# Altium integrated library Analog_Devices_Power_Management_Linear_Regulators.IntLib: 441 symbols (part 17 of 23)
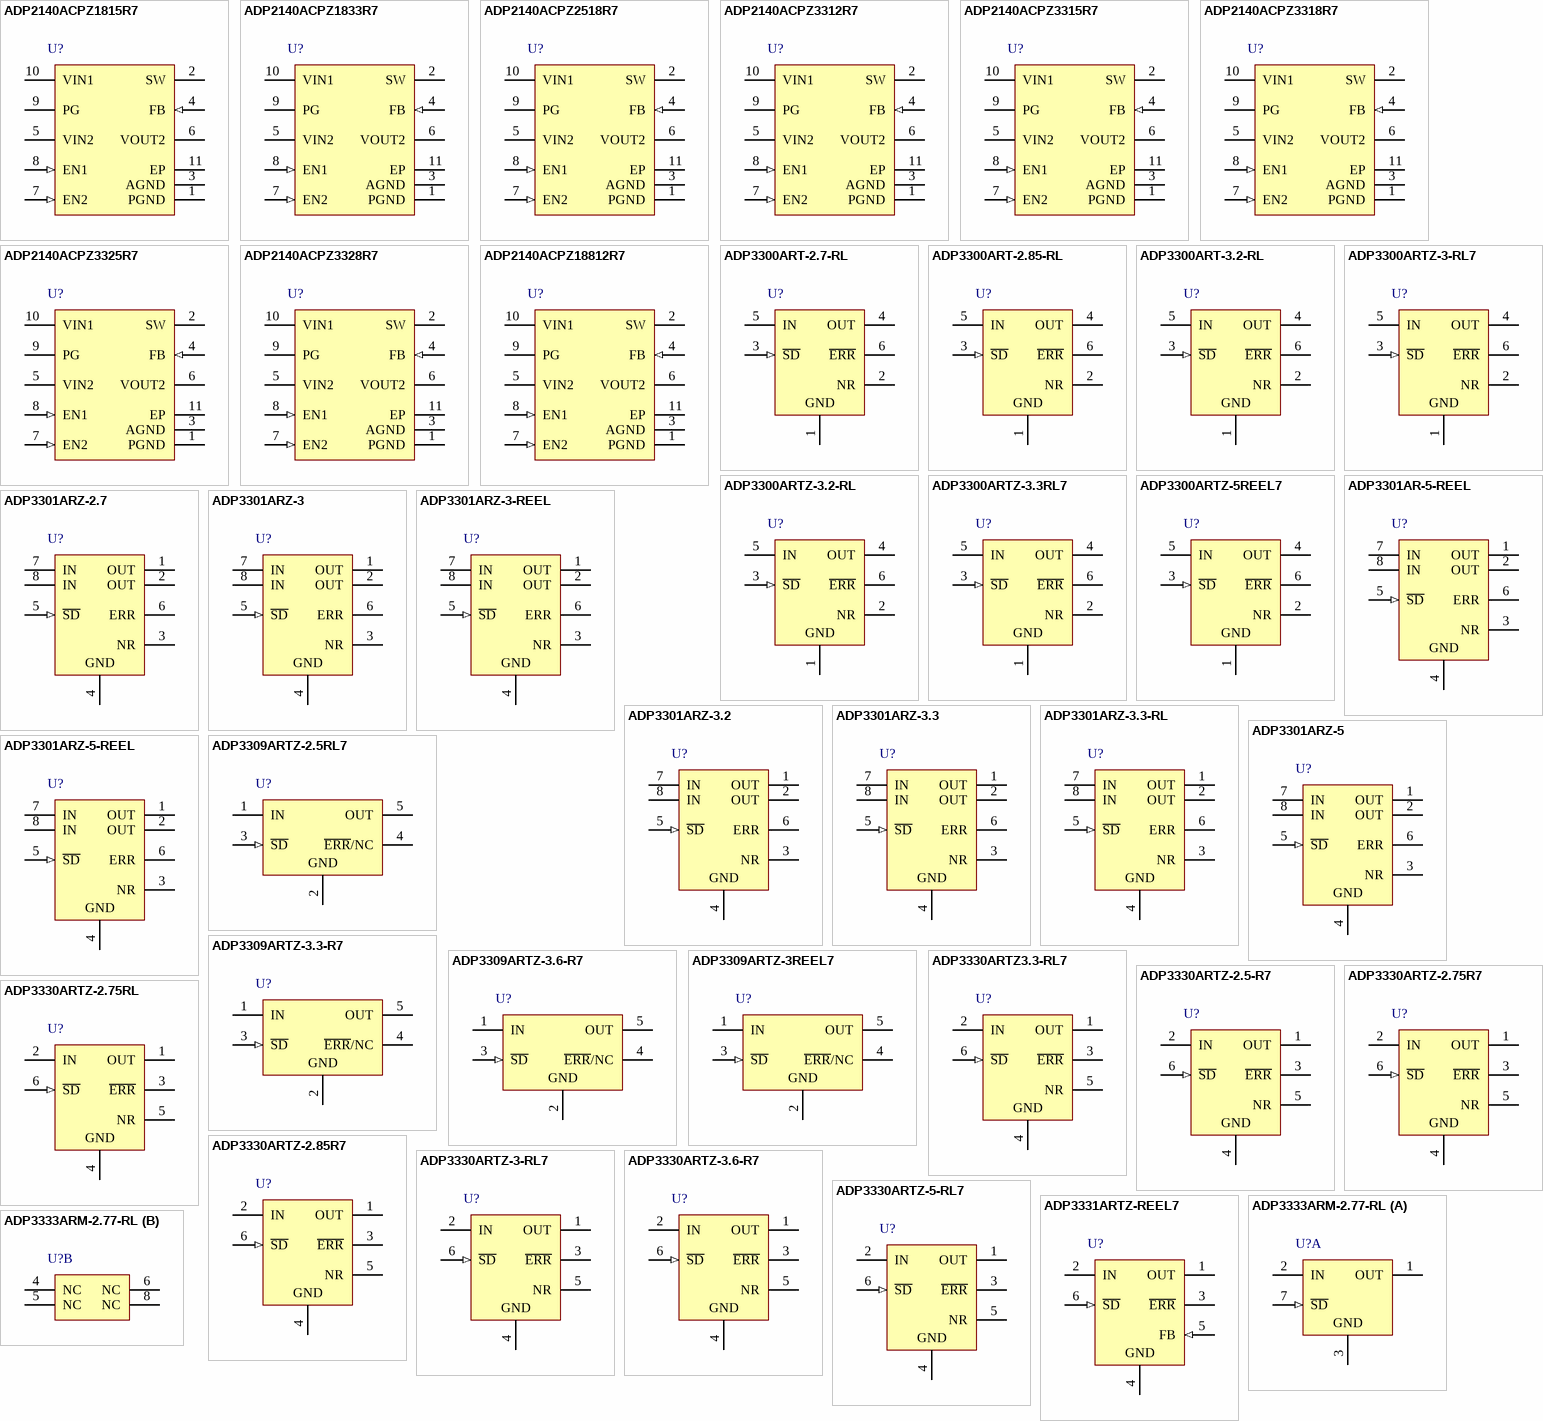
[diagram p27: symbols ADP2140ACPZ1815R7 to ADP3333ARM-2.77-RL]

## ADP2140ACPZ3312R7
designator U?
3 MHz, 600 mA, Low Quiescent Current Buck with 300 mA LDO Regulator, 2.3 to 5.5 V Vin, 3.3; 1.2 V Vout, Industrial, 10-pin SON (CP-10-9), Reel; Manufacturer: Analog Devices; PartNumber: ADP2140ACPZ3312R7; Iout max: 300mA; Supply Current IGND @ Small Load: 65uA; Vin (max) (V): 5.5; Vin (min) (V): 1.65; DatasheetVersion: Rev. A; PackageVersion: 02-27-2012-B; PackageReference: CP-10-9; PackageDescription: 10-Pin Lead Frame Chip Scale Package, Body 3 X 3 mm, Pitch 0.5 mm; Supplier 1: Digi-Key; Supplier Part Number 1: ADP2140ACPZ3312R7TR-ND; Supplier 2: Digi-Key; Supplier Part Number 2: ADP2140ACPZ3312R7CT-ND; Supplier 3: Digi-Key; Supplier Part Number 3: ADP2140ACPZ3312R7DKR-ND; Supplier 4: Farnell; Supplier Part Number 4: 1843658; Supplier 5: Newark; Supplier Part Number 5: 12T2992; Supplier 6: Mouser; Supplier Part Number 6: 584-AP2140ACPZ3312R7; Packing: Reel; Preset Vout Values (V): 3.3; 1.2; Mounting Technology: Surface Mount; ComponentLink1Description: Manufacturer URL; ComponentLink1URL: http://www.analog.com/en/index.html; ComponentLink2Description: Datasheet; ComponentLink2URL: http://www.analog.com/static/imported-files/data_sheets/ADP2140.pdf; ComponentLink3Description: Package Specification; ComponentLink3URL: http://www.analog.com/static/imported-files/packages/CP_10_9.pdf; ComponentLink4Description: URL Link1; ComponentLink4URL: Product URL:http://www.analog.com/en/ADP2140/productSearch.html
footprint ADI-CP-10-9_V (SON, 10-Leads, Body 3x3mm, Pitch 0.5mm, Thermal Pad 2.48x1.74mm)
pins: 1 PGND (power) "Power Ground.", 2 SW (power) "Connection from Power MOSFETs to Inductor.", 3 AGND (power) "Analog Ground.", 4 FB (in) "Feedback from Buck Output.", 5 VIN2 (power) "LDO Input Voltage.", 6 VOUT2 (power) "LDO Output Voltage.", 7 EN2 (in) "Logic 1 to Enable LDO or No Connect for Autosequencing.", 8 EN1 (in) "Logic 1 to Enable Buck or Initiate Sequencing. This is a dual function pin and the state of EN2 determines which function is operational.", 9 PG (oc) "Power Good. Open-drain output. PG is held low until both output voltages (which includes the external inductor and capacitor sensed by the FB pin) rise above 92% of nominal value. PG is held high until both outputs fall (See Datasheet)", 10 VIN1 (power) "Analog Power Input.", 11 EP (power) "Exposed Pad. The exposed pad on the bottom of the LFCSP package enhances thermal performance and is electrically connected to ground inside the package. It is recommended that the exposed pad be connected to the ground plane (See Datasheet)"

## ADP2140ACPZ3315R7
designator U?
3 MHz, 600 mA, Low Quiescent Current Buck with 300 mA LDO Regulator, 2.3 to 5.5 V Vin, 3.3; 1.5 V Vout, Industrial, 10-pin SON (CP-10-9), Reel; Manufacturer: Analog Devices; PartNumber: ADP2140ACPZ3315R7; Iout max: 300mA; Supply Current IGND @ Small Load: 65uA; Vin (max) (V): 5.5; Vin (min) (V): 1.65; DatasheetVersion: Rev. A; PackageVersion: 02-27-2012-B; PackageReference: CP-10-9; PackageDescription: 10-Pin Lead Frame Chip Scale Package, Body 3 X 3 mm, Pitch 0.5 mm; Supplier 1: Digi-Key; Supplier Part Number 1: ADP2140ACPZ3315R7TR-ND; Supplier 2: Digi-Key; Supplier Part Number 2: ADP2140ACPZ3315R7CT-ND; Supplier 3: Digi-Key; Supplier Part Number 3: ADP2140ACPZ3315R7DKR-ND; Supplier 4: Farnell; Supplier Part Number 4: 1843659; Supplier 5: Newark; Supplier Part Number 5: 12T2993; Supplier 6: Mouser; Supplier Part Number 6: 584-AP2140ACPZ3315R7; Packing: Reel; Preset Vout Values (V): 3.3; 1.5; Mounting Technology: Surface Mount; ComponentLink1Description: Manufacturer URL; ComponentLink1URL: http://www.analog.com/en/index.html; ComponentLink2Description: Datasheet; ComponentLink2URL: http://www.analog.com/static/imported-files/data_sheets/ADP2140.pdf; ComponentLink3Description: Package Specification; ComponentLink3URL: http://www.analog.com/static/imported-files/packages/CP_10_9.pdf; ComponentLink4Description: URL Link1; ComponentLink4URL: Product URL:http://www.analog.com/en/ADP2140/productSearch.html
footprint ADI-CP-10-9_V (SON, 10-Leads, Body 3x3mm, Pitch 0.5mm, Thermal Pad 2.48x1.74mm)
pins: 1 PGND (power) "Power Ground.", 2 SW (power) "Connection from Power MOSFETs to Inductor.", 3 AGND (power) "Analog Ground.", 4 FB (in) "Feedback from Buck Output.", 5 VIN2 (power) "LDO Input Voltage.", 6 VOUT2 (power) "LDO Output Voltage.", 7 EN2 (in) "Logic 1 to Enable LDO or No Connect for Autosequencing.", 8 EN1 (in) "Logic 1 to Enable Buck or Initiate Sequencing. This is a dual function pin and the state of EN2 determines which function is operational.", 9 PG (oc) "Power Good. Open-drain output. PG is held low until both output voltages (which includes the external inductor and capacitor sensed by the FB pin) rise above 92% of nominal value. PG is held high until both outputs fall (See Datasheet)", 10 VIN1 (power) "Analog Power Input.", 11 EP (power) "Exposed Pad. The exposed pad on the bottom of the LFCSP package enhances thermal performance and is electrically connected to ground inside the package. It is recommended that the exposed pad be connected to the ground plane (See Datasheet)"

## ADP2140ACPZ3318R7
designator U?
3 MHz, 600 mA, Low Quiescent Current Buck with 300 mA LDO Regulator, 2.3 to 5.5 V Vin, 3.3; 1.8 V Vout, Industrial, 10-pin SON (CP-10-9), Reel; Manufacturer: Analog Devices; PartNumber: ADP2140ACPZ3318R7; Iout max: 300mA; Supply Current IGND @ Small Load: 65uA; Vin (max) (V): 5.5; Vin (min) (V): 1.65; DatasheetVersion: Rev. A; PackageVersion: 02-27-2012-B; PackageReference: CP-10-9; PackageDescription: 10-Pin Lead Frame Chip Scale Package, Body 3 X 3 mm, Pitch 0.5 mm; Supplier 1: Digi-Key; Supplier Part Number 1: ADP2140ACPZ3318R7TR-ND; Supplier 2: Digi-Key; Supplier Part Number 2: ADP2140ACPZ3318R7CT-ND; Supplier 3: Digi-Key; Supplier Part Number 3: ADP2140ACPZ3318R7DKR-ND; Supplier 4: Mouser; Supplier Part Number 4: 584-AP2140ACPZ3318R7; Packing: Reel; Preset Vout Values (V): 3.3; 1.8; Mounting Technology: Surface Mount; ComponentLink1Description: Manufacturer URL; ComponentLink1URL: http://www.analog.com/en/index.html; ComponentLink2Description: Datasheet; ComponentLink2URL: http://www.analog.com/static/imported-files/data_sheets/ADP2140.pdf; ComponentLink3Description: Package Specification; ComponentLink3URL: http://www.analog.com/static/imported-files/packages/CP_10_9.pdf; ComponentLink4Description: URL Link1; ComponentLink4URL: Product URL:http://www.analog.com/en/ADP2140/productSearch.html
footprint ADI-CP-10-9_V (SON, 10-Leads, Body 3x3mm, Pitch 0.5mm, Thermal Pad 2.48x1.74mm)
pins: 1 PGND (power) "Power Ground.", 2 SW (power) "Connection from Power MOSFETs to Inductor.", 3 AGND (power) "Analog Ground.", 4 FB (in) "Feedback from Buck Output.", 5 VIN2 (power) "LDO Input Voltage.", 6 VOUT2 (power) "LDO Output Voltage.", 7 EN2 (in) "Logic 1 to Enable LDO or No Connect for Autosequencing.", 8 EN1 (in) "Logic 1 to Enable Buck or Initiate Sequencing. This is a dual function pin and the state of EN2 determines which function is operational.", 9 PG (oc) "Power Good. Open-drain output. PG is held low until both output voltages (which includes the external inductor and capacitor sensed by the FB pin) rise above 92% of nominal value. PG is held high until both outputs fall (See Datasheet)", 10 VIN1 (power) "Analog Power Input.", 11 EP (power) "Exposed Pad. The exposed pad on the bottom of the LFCSP package enhances thermal performance and is electrically connected to ground inside the package. It is recommended that the exposed pad be connected to the ground plane (See Datasheet)"

## ADP2140ACPZ3325R7
designator U?
3 MHz, 600 mA, Low Quiescent Current Buck with 300 mA LDO Regulator, 2.3 to 5.5 V Vin, 3.3; 2.5 V Vout, Industrial, 10-pin SON (CP-10-9), Reel; Manufacturer: Analog Devices; PartNumber: ADP2140ACPZ3325R7; Iout max: 300mA; Supply Current IGND @ Small Load: 65uA; Vin (max) (V): 5.5; Vin (min) (V): 1.65; DatasheetVersion: Rev. A; PackageVersion: 02-27-2012-B; PackageReference: CP-10-9; PackageDescription: 10-Pin Lead Frame Chip Scale Package, Body 3 X 3 mm, Pitch 0.5 mm; Supplier 1: Digi-Key; Supplier Part Number 1: ADP2140ACPZ3325R7TR-ND; Supplier 2: Digi-Key; Supplier Part Number 2: ADP2140ACPZ3325R7CT-ND; Supplier 3: Digi-Key; Supplier Part Number 3: ADP2140ACPZ3325R7DKR-ND; Supplier 4: Mouser; Supplier Part Number 4: 584-AP2140ACPZ3325R7; Packing: Reel; Preset Vout Values (V): 3.3; 2.5; Mounting Technology: Surface Mount; ComponentLink1Description: Manufacturer URL; ComponentLink1URL: http://www.analog.com/en/index.html; ComponentLink2Description: Datasheet; ComponentLink2URL: http://www.analog.com/static/imported-files/data_sheets/ADP2140.pdf; ComponentLink3Description: Package Specification; ComponentLink3URL: http://www.analog.com/static/imported-files/packages/CP_10_9.pdf; ComponentLink4Description: URL Link1; ComponentLink4URL: Product URL:http://www.analog.com/en/ADP2140/productSearch.html
footprint ADI-CP-10-9_V (SON, 10-Leads, Body 3x3mm, Pitch 0.5mm, Thermal Pad 2.48x1.74mm)
pins: 1 PGND (power) "Power Ground.", 2 SW (power) "Connection from Power MOSFETs to Inductor.", 3 AGND (power) "Analog Ground.", 4 FB (in) "Feedback from Buck Output.", 5 VIN2 (power) "LDO Input Voltage.", 6 VOUT2 (power) "LDO Output Voltage.", 7 EN2 (in) "Logic 1 to Enable LDO or No Connect for Autosequencing.", 8 EN1 (in) "Logic 1 to Enable Buck or Initiate Sequencing. This is a dual function pin and the state of EN2 determines which function is operational.", 9 PG (oc) "Power Good. Open-drain output. PG is held low until both output voltages (which includes the external inductor and capacitor sensed by the FB pin) rise above 92% of nominal value. PG is held high until both outputs fall (See Datasheet)", 10 VIN1 (power) "Analog Power Input.", 11 EP (power) "Exposed Pad. The exposed pad on the bottom of the LFCSP package enhances thermal performance and is electrically connected to ground inside the package. It is recommended that the exposed pad be connected to the ground plane (See Datasheet)"

## ADP2140ACPZ3328R7
designator U?
3 MHz, 600 mA, Low Quiescent Current Buck with 300 mA LDO Regulator, 2.3 to 5.5 V Vin, 3.3; 2.8 V Vout, Industrial, 10-pin SON (CP-10-9), Reel; Manufacturer: Analog Devices; PartNumber: ADP2140ACPZ3328R7; Iout max: 300mA; Supply Current IGND @ Small Load: 65uA; Vin (max) (V): 5.5; Vin (min) (V): 1.65; DatasheetVersion: Rev. A; PackageVersion: 02-27-2012-B; PackageReference: CP-10-9; PackageDescription: 10-Pin Lead Frame Chip Scale Package, Body 3 X 3 mm, Pitch 0.5 mm; Supplier 1: Digi-Key; Supplier Part Number 1: ADP2140ACPZ3328R7TR-ND; Supplier 2: Digi-Key; Supplier Part Number 2: ADP2140ACPZ3328R7CT-ND; Supplier 3: Digi-Key; Supplier Part Number 3: ADP2140ACPZ3328R7DKR-ND; Supplier 4: Mouser; Supplier Part Number 4: 584-AP2140ACPZ3328R7; Packing: Reel; Preset Vout Values (V): 3.3; 2.8; Mounting Technology: Surface Mount; ComponentLink1Description: Manufacturer URL; ComponentLink1URL: http://www.analog.com/en/index.html; ComponentLink2Description: Datasheet; ComponentLink2URL: http://www.analog.com/static/imported-files/data_sheets/ADP2140.pdf; ComponentLink3Description: Package Specification; ComponentLink3URL: http://www.analog.com/static/imported-files/packages/CP_10_9.pdf; ComponentLink4Description: URL Link1; ComponentLink4URL: Product URL:http://www.analog.com/en/ADP2140/productSearch.html
footprint ADI-CP-10-9_V (SON, 10-Leads, Body 3x3mm, Pitch 0.5mm, Thermal Pad 2.48x1.74mm)
pins: 1 PGND (power) "Power Ground.", 2 SW (power) "Connection from Power MOSFETs to Inductor.", 3 AGND (power) "Analog Ground.", 4 FB (in) "Feedback from Buck Output.", 5 VIN2 (power) "LDO Input Voltage.", 6 VOUT2 (power) "LDO Output Voltage.", 7 EN2 (in) "Logic 1 to Enable LDO or No Connect for Autosequencing.", 8 EN1 (in) "Logic 1 to Enable Buck or Initiate Sequencing. This is a dual function pin and the state of EN2 determines which function is operational.", 9 PG (oc) "Power Good. Open-drain output. PG is held low until both output voltages (which includes the external inductor and capacitor sensed by the FB pin) rise above 92% of nominal value. PG is held high until both outputs fall (See Datasheet)", 10 VIN1 (power) "Analog Power Input.", 11 EP (power) "Exposed Pad. The exposed pad on the bottom of the LFCSP package enhances thermal performance and is electrically connected to ground inside the package. It is recommended that the exposed pad be connected to the ground plane (See Datasheet)"

## ADP2140ACPZ18812R7
designator U?
3 MHz, 600 mA, Low Quiescent Current Buck with 300 mA LDO Regulator, 2.3 to 5.5 V Vin, 1.875; 1.2 V Vout, Industrial, 10-pin SON (CP-10-9), Reel; Manufacturer: Analog Devices; PartNumber: ADP2140ACPZ18812R7; Iout max: 300mA; Supply Current IGND @ Small Load: 65uA; Vin (max) (V): 5.5; Vin (min) (V): 1.65; DatasheetVersion: Rev. A; PackageVersion: 02-27-2012-B; PackageReference: CP-10-9; PackageDescription: 10-Pin Lead Frame Chip Scale Package, Body 3 X 3 mm, Pitch 0.5 mm; Supplier 1: Digi-Key; Supplier Part Number 1: ADP2140ACPZ18812R7TR-ND; Supplier 2: Digi-Key; Supplier Part Number 2: ADP2140ACPZ18812R7CT-ND; Supplier 3: Digi-Key; Supplier Part Number 3: ADP2140ACPZ18812R7DKR-ND; Supplier 4: Mouser; Supplier Part Number 4: 584-P2140ACPZ18812R7; Packing: Reel; Preset Vout Values (V): 1.875; 1.2; Mounting Technology: Surface Mount; ComponentLink1Description: Manufacturer URL; ComponentLink1URL: http://www.analog.com/en/index.html; ComponentLink2Description: Datasheet; ComponentLink2URL: http://www.analog.com/static/imported-files/data_sheets/ADP2140.pdf; ComponentLink3Description: Package Specification; ComponentLink3URL: http://www.analog.com/static/imported-files/packages/CP_10_9.pdf; ComponentLink4Description: URL Link1; ComponentLink4URL: Product URL:http://www.analog.com/en/ADP2140/productSearch.html
footprint ADI-CP-10-9_V (SON, 10-Leads, Body 3x3mm, Pitch 0.5mm, Thermal Pad 2.48x1.74mm)
pins: 1 PGND (power) "Power Ground.", 2 SW (power) "Connection from Power MOSFETs to Inductor.", 3 AGND (power) "Analog Ground.", 4 FB (in) "Feedback from Buck Output.", 5 VIN2 (power) "LDO Input Voltage.", 6 VOUT2 (power) "LDO Output Voltage.", 7 EN2 (in) "Logic 1 to Enable LDO or No Connect for Autosequencing.", 8 EN1 (in) "Logic 1 to Enable Buck or Initiate Sequencing. This is a dual function pin and the state of EN2 determines which function is operational.", 9 PG (oc) "Power Good. Open-drain output. PG is held low until both output voltages (which includes the external inductor and capacitor sensed by the FB pin) rise above 92% of nominal value. PG is held high until both outputs fall (See Datasheet)", 10 VIN1 (power) "Analog Power Input.", 11 EP (power) "Exposed Pad. The exposed pad on the bottom of the LFCSP package enhances thermal performance and is electrically connected to ground inside the package. It is recommended that the exposed pad be connected to the ground plane (See Datasheet)"

## ADP3300ART-2.7-RL
designator U?
High Accuracy anyCAP(R) 50 mA Low Dropout Linear Regulator, 3 to 12 V Vin, 2.7 V Vout, Industrial, 6-pin SOT23 (RT-6), Reel; Manufacturer: Analog Devices; PartNumber: ADP3300ART-2.7-RL; Iout max: 50mA; Preset Vout Values (V): 2.7; Supply Current IGND @ Small Load: 190uA; Vin (max) (V): 12; Vin (min) (V): 3; DatasheetVersion: Rev. B; PackageVersion: REV. A, 11/2006; PackageReference: RT-6; PackageDescription: 6-Pin Plastic Surface Mount SOT-23 Package, Body 2.9 x 1.65 mm, Pitch 0.95 mm; Supplier 1: Digi-Key; Supplier Part Number 1: ADP3300ART-2.7-RLTR-ND; Supplier 2: Digi-Key; Supplier Part Number 2: ADP3300ART-2.7-RLCT-ND; Supplier 3: Digi-Key; Supplier Part Number 3: ADP3300ART-2.7-RLDKR-ND; Supplier 4: Mouser; Supplier Part Number 4: 584-ADP3300ART-2.7-R; Packing: Reel; Mounting Technology: Surface Mount; ComponentLink1Description: Manufacturer URL; ComponentLink1URL: http://www.analog.com/en/index.html; ComponentLink2Description: Datasheet; ComponentLink2URL: http://www.analog.com/static/imported-files/data_sheets/ADP3300.pdf; ComponentLink3Description: Package Specification; ComponentLink3URL: http://www.analog.com/static/imported-files/data_sheets/ADG465.pdf; ComponentLink4Description: URL Link1; ComponentLink4URL: Product URL:http://www.analog.com/en/ADP3300/productSearch.html
footprint ADI-RT-6_N (SOT23, 6-Leads, Body 2.9x1.65mm, Pitch 0.95mm, IPC Medium Density)
footprint ADI-RT-6_L (SOT23, 6-Leads, Body 2.9x1.65mm, Pitch 0.95mm, IPC High Density)
footprint ADI-RT-6_M (SOT23, 6-Leads, Body 2.9x1.65mm, Pitch 0.95mm, IPC Low Density)
pins: 1 GND (power) "Ground Pin", 2 NR "Noise Reduction Pin. Used for further reduction of the output noise (see text for details). No connection if not used.", 3 ~{SD} (in) "Active Low Shutdown Pin. Connect to ground to disable the regulator output. When shutdown is not used, this pin should be connected to the input pin.", 4 OUT (power) "Output of the Regulator, fixed 2.7, 3.0, 3.2, 3.3 or 5 volts output voltage. Bypass to ground with a 0.47 uF or larger capacitor.", 5 IN (power) "Regulator Input", 6 ~{ERR} (oc) "Open Collector Output which goes low to indicate that the output is about to go out of regulation."

## ADP3300ART-2.85-RL
designator U?
High Accuracy anyCAP(R) 50 mA Low Dropout Linear Regulator, 3 to 12 V Vin, 2.85 V Vout, Industrial, 6-pin SOT23 (RT-6), Reel; Manufacturer: Analog Devices; PartNumber: ADP3300ART-2.85-RL; Iout max: 50mA; Preset Vout Values (V): 2.85; Supply Current IGND @ Small Load: 190uA; Vin (max) (V): 12; Vin (min) (V): 3; DatasheetVersion: Rev. B; PackageVersion: REV. A, 11/2006; PackageReference: RT-6; PackageDescription: 6-Pin Plastic Surface Mount SOT-23 Package, Body 2.9 x 1.65 mm, Pitch 0.95 mm; Supplier 1: Mouser; Supplier Part Number 1: N/A; Packing: Reel; Mounting Technology: Surface Mount; ComponentLink1Description: Manufacturer URL; ComponentLink1URL: http://www.analog.com/en/index.html; ComponentLink2Description: Datasheet; ComponentLink2URL: http://www.analog.com/static/imported-files/data_sheets/ADP3300.pdf; ComponentLink3Description: Package Specification; ComponentLink3URL: http://www.analog.com/static/imported-files/data_sheets/ADG465.pdf; ComponentLink4Description: URL Link1; ComponentLink4URL: Product URL:http://www.analog.com/en/ADP3300/productSearch.html
footprint ADI-RT-6_N (SOT23, 6-Leads, Body 2.9x1.65mm, Pitch 0.95mm, IPC Medium Density)
footprint ADI-RT-6_L (SOT23, 6-Leads, Body 2.9x1.65mm, Pitch 0.95mm, IPC High Density)
footprint ADI-RT-6_M (SOT23, 6-Leads, Body 2.9x1.65mm, Pitch 0.95mm, IPC Low Density)
pins: 1 GND (power) "Ground Pin", 2 NR "Noise Reduction Pin. Used for further reduction of the output noise (see text for details). No connection if not used.", 3 ~{SD} (in) "Active Low Shutdown Pin. Connect to ground to disable the regulator output. When shutdown is not used, this pin should be connected to the input pin.", 4 OUT (power) "Output of the Regulator, fixed 2.7, 3.0, 3.2, 3.3 or 5 volts output voltage. Bypass to ground with a 0.47 uF or larger capacitor.", 5 IN (power) "Regulator Input", 6 ~{ERR} (oc) "Open Collector Output which goes low to indicate that the output is about to go out of regulation."

## ADP3300ART-3.2-RL
designator U?
High Accuracy anyCAP(R) 50 mA Low Dropout Linear Regulator, 3 to 12 V Vin, 3.2 V Vout, Industrial, 6-pin SOT23 (RT-6), Reel; Manufacturer: Analog Devices; PartNumber: ADP3300ART-3.2-RL; Iout max: 50mA; Preset Vout Values (V): 3.2; Supply Current IGND @ Small Load: 190uA; Vin (max) (V): 12; Vin (min) (V): 3; DatasheetVersion: Rev. B; PackageVersion: REV. A, 11/2006; PackageReference: RT-6; PackageDescription: 6-Pin Plastic Surface Mount SOT-23 Package, Body 2.9 x 1.65 mm, Pitch 0.95 mm; Supplier 1: Digi-Key; Supplier Part Number 1: ADP3300ART-3.2-RLTR-ND; Supplier 2: Digi-Key; Supplier Part Number 2: ADP3300ART-3.2-RLCT-ND; Supplier 3: Digi-Key; Supplier Part Number 3: ADP3300ART-3.2-RLDKR-ND; Supplier 4: Mouser; Supplier Part Number 4: 584-ADP3300ART-3.2-R; Packing: Reel; Mounting Technology: Surface Mount; ComponentLink1Description: Manufacturer URL; ComponentLink1URL: http://www.analog.com/en/index.html; ComponentLink2Description: Datasheet; ComponentLink2URL: http://www.analog.com/static/imported-files/data_sheets/ADP3300.pdf; ComponentLink3Description: Package Specification; ComponentLink3URL: http://www.analog.com/static/imported-files/data_sheets/ADG465.pdf; ComponentLink4Description: URL Link1; ComponentLink4URL: Product URL:http://www.analog.com/en/ADP3300/productSearch.html
footprint ADI-RT-6_N (SOT23, 6-Leads, Body 2.9x1.65mm, Pitch 0.95mm, IPC Medium Density)
footprint ADI-RT-6_L (SOT23, 6-Leads, Body 2.9x1.65mm, Pitch 0.95mm, IPC High Density)
footprint ADI-RT-6_M (SOT23, 6-Leads, Body 2.9x1.65mm, Pitch 0.95mm, IPC Low Density)
pins: 1 GND (power) "Ground Pin", 2 NR "Noise Reduction Pin. Used for further reduction of the output noise (see text for details). No connection if not used.", 3 ~{SD} (in) "Active Low Shutdown Pin. Connect to ground to disable the regulator output. When shutdown is not used, this pin should be connected to the input pin.", 4 OUT (power) "Output of the Regulator, fixed 2.7, 3.0, 3.2, 3.3 or 5 volts output voltage. Bypass to ground with a 0.47 uF or larger capacitor.", 5 IN (power) "Regulator Input", 6 ~{ERR} (oc) "Open Collector Output which goes low to indicate that the output is about to go out of regulation."

## ADP3300ARTZ-3-RL7
designator U?
High Accuracy anyCAP(R) 50 mA Low Dropout Linear Regulator, 3 to 12 V Vin, 3 V Vout, Industrial, 6-pin SOT23 (RT-6), Reel; Manufacturer: Analog Devices; PartNumber: ADP3300ARTZ-3-RL7; Iout max: 50mA; Preset Vout Values (V): 3; Supply Current IGND @ Small Load: 190uA; Vin (max) (V): 12; DatasheetVersion: Rev. B; PackageVersion: REV. A, 11/2006; PackageReference: RT-6; PackageDescription: 6-Pin Plastic Surface Mount SOT-23 Package, Body 2.9 x 1.65 mm, Pitch 0.95 mm; Supplier 1: Digi-Key; Supplier Part Number 1: ADP3300ARTZ-3-RL7TR-ND; Supplier 2: Digi-Key; Supplier Part Number 2: ADP3300ARTZ-3-RL7CT-ND; Supplier 3: Digi-Key; Supplier Part Number 3: ADP3300ARTZ-3-RL7DKR-ND; Supplier 4: Mouser; Supplier Part Number 4: 584-ADP3300ARTZ-3-R7; Packing: Reel; Vin (min) (V): 3; Mounting Technology: Surface Mount; ComponentLink1Description: Manufacturer URL; ComponentLink1URL: http://www.analog.com/en/index.html; ComponentLink2Description: Datasheet; ComponentLink2URL: http://www.analog.com/static/imported-files/data_sheets/ADP3300.pdf; ComponentLink3Description: Package Specification; ComponentLink3URL: http://www.analog.com/static/imported-files/data_sheets/ADG465.pdf; ComponentLink4Description: URL Link1; ComponentLink4URL: Product URL:http://www.analog.com/en/ADP3300/productSearch.html
footprint ADI-RT-6_N (SOT23, 6-Leads, Body 2.9x1.65mm, Pitch 0.95mm, IPC Medium Density)
footprint ADI-RT-6_L (SOT23, 6-Leads, Body 2.9x1.65mm, Pitch 0.95mm, IPC High Density)
footprint ADI-RT-6_M (SOT23, 6-Leads, Body 2.9x1.65mm, Pitch 0.95mm, IPC Low Density)
pins: 1 GND (power) "Ground Pin", 2 NR "Noise Reduction Pin. Used for further reduction of the output noise (see text for details). No connection if not used.", 3 ~{SD} (in) "Active Low Shutdown Pin. Connect to ground to disable the regulator output. When shutdown is not used, this pin should be connected to the input pin.", 4 OUT (power) "Output of the Regulator, fixed 2.7, 3.0, 3.2, 3.3 or 5 volts output voltage. Bypass to ground with a 0.47 uF or larger capacitor.", 5 IN (power) "Regulator Input", 6 ~{ERR} (oc) "Open Collector Output which goes low to indicate that the output is about to go out of regulation."

## ADP3300ARTZ-3.2-RL
designator U?
High Accuracy anyCAP(R) 50 mA Low Dropout Linear Regulator, 3 to 12 V Vin, 3.2 V Vout, Industrial, 6-pin SOT23 (RT-6), Reel; Manufacturer: Analog Devices; PartNumber: ADP3300ARTZ-3.2-RL; Iout max: 50mA; Preset Vout Values (V): 3.2; Supply Current IGND @ Small Load: 190uA; Vin (max) (V): 12; Vin (min) (V): 3; DatasheetVersion: Rev. B; PackageVersion: REV. A, 11/2006; PackageReference: RT-6; PackageDescription: 6-Pin Plastic Surface Mount SOT-23 Package, Body 2.9 x 1.65 mm, Pitch 0.95 mm; Supplier 1: Digi-Key; Supplier Part Number 1: ADP3300ARTZ-3.2-RLTR-ND; Supplier 2: Digi-Key; Supplier Part Number 2: ADP3300ARTZ-3.2-RLCT-ND; Supplier 3: Digi-Key; Supplier Part Number 3: ADP3300ARTZ-3.2-RLDKR-ND; Supplier 4: Mouser; Supplier Part Number 4: 584-ADP3300ARTZ3.2R; Packing: Reel; Mounting Technology: Surface Mount; ComponentLink1Description: Manufacturer URL; ComponentLink1URL: http://www.analog.com/en/index.html; ComponentLink2Description: Datasheet; ComponentLink2URL: http://www.analog.com/static/imported-files/data_sheets/ADP3300.pdf; ComponentLink3Description: Package Specification; ComponentLink3URL: http://www.analog.com/static/imported-files/data_sheets/ADG465.pdf; ComponentLink4Description: URL Link1; ComponentLink4URL: Product URL:http://www.analog.com/en/ADP3300/productSearch.html
footprint ADI-RT-6_N (SOT23, 6-Leads, Body 2.9x1.65mm, Pitch 0.95mm, IPC Medium Density)
footprint ADI-RT-6_L (SOT23, 6-Leads, Body 2.9x1.65mm, Pitch 0.95mm, IPC High Density)
footprint ADI-RT-6_M (SOT23, 6-Leads, Body 2.9x1.65mm, Pitch 0.95mm, IPC Low Density)
pins: 1 GND (power) "Ground Pin", 2 NR "Noise Reduction Pin. Used for further reduction of the output noise (see text for details). No connection if not used.", 3 ~{SD} (in) "Active Low Shutdown Pin. Connect to ground to disable the regulator output. When shutdown is not used, this pin should be connected to the input pin.", 4 OUT (power) "Output of the Regulator, fixed 2.7, 3.0, 3.2, 3.3 or 5 volts output voltage. Bypass to ground with a 0.47 uF or larger capacitor.", 5 IN (power) "Regulator Input", 6 ~{ERR} (oc) "Open Collector Output which goes low to indicate that the output is about to go out of regulation."

## ADP3300ARTZ-3.3RL7
designator U?
High Accuracy anyCAP(R) 50 mA Low Dropout Linear Regulator, 3 to 12 V Vin, 3.3 V Vout, Industrial, 6-pin SOT23 (RT-6), Reel; Manufacturer: Analog Devices; PartNumber: ADP3300ARTZ-3.3RL7; Iout max: 50mA; Preset Vout Values (V): 3.3; Supply Current IGND @ Small Load: 190uA; Vin (max) (V): 12; Vin (min) (V): 3; DatasheetVersion: Rev. B; PackageVersion: REV. A, 11/2006; PackageReference: RT-6; PackageDescription: 6-Pin Plastic Surface Mount SOT-23 Package, Body 2.9 x 1.65 mm, Pitch 0.95 mm; Supplier 1: Digi-Key; Supplier Part Number 1: ADP3300ARTZ3.3RTR-ND; Supplier 2: Digi-Key; Supplier Part Number 2: ADP3300ARTZ3.3RCT-ND; Supplier 3: Digi-Key; Supplier Part Number 3: ADP3300ARTZ3.3RDKR-ND; Supplier 4: Farnell; Supplier Part Number 4: 1661067; Supplier 5: Farnell; Supplier Part Number 5: 1661067RL; Supplier 6: Newark; Supplier Part Number 6: 48P5677; Supplier 7: Newark; Supplier Part Number 7: 59K2576; Supplier 8: Mouser; Supplier Part Number 8: 584-ADP3300ARTZ3.3R7; Packing: Reel; Mounting Technology: Surface Mount; ComponentLink1Description: Manufacturer URL; ComponentLink1URL: http://www.analog.com/en/index.html; ComponentLink2Description: Datasheet; ComponentLink2URL: http://www.analog.com/static/imported-files/data_sheets/ADP3300.pdf; ComponentLink3Description: Package Specification; ComponentLink3URL: http://www.analog.com/static/imported-files/data_sheets/ADG465.pdf; ComponentLink4Description: URL Link1; ComponentLink4URL: Product URL:http://www.analog.com/en/ADP3300/productSearch.html
footprint ADI-RT-6_N (SOT23, 6-Leads, Body 2.9x1.65mm, Pitch 0.95mm, IPC Medium Density)
footprint ADI-RT-6_L (SOT23, 6-Leads, Body 2.9x1.65mm, Pitch 0.95mm, IPC High Density)
footprint ADI-RT-6_M (SOT23, 6-Leads, Body 2.9x1.65mm, Pitch 0.95mm, IPC Low Density)
pins: 1 GND (power) "Ground Pin", 2 NR "Noise Reduction Pin. Used for further reduction of the output noise (see text for details). No connection if not used.", 3 ~{SD} (in) "Active Low Shutdown Pin. Connect to ground to disable the regulator output. When shutdown is not used, this pin should be connected to the input pin.", 4 OUT (power) "Output of the Regulator, fixed 2.7, 3.0, 3.2, 3.3 or 5 volts output voltage. Bypass to ground with a 0.47 uF or larger capacitor.", 5 IN (power) "Regulator Input", 6 ~{ERR} (oc) "Open Collector Output which goes low to indicate that the output is about to go out of regulation."

## ADP3300ARTZ-5REEL7
designator U?
High Accuracy anyCAP(R) 50 mA Low Dropout Linear Regulator, 3 to 12 V Vin, 5 V Vout, Industrial, 6-pin SOT23 (RT-6), Reel; Manufacturer: Analog Devices; PartNumber: ADP3300ARTZ-5REEL7; Iout max: 50mA; Preset Vout Values (V): 5; Supply Current IGND @ Small Load: 190uA; Vin (max) (V): 12; Vin (min) (V): 3; DatasheetVersion: Rev. B; PackageVersion: REV. A, 11/2006; PackageReference: RT-6; PackageDescription: 6-Pin Plastic Surface Mount SOT-23 Package, Body 2.9 x 1.65 mm, Pitch 0.95 mm; Supplier 1: Digi-Key; Supplier Part Number 1: ADP3300ARTZ-5REEL7TR-ND; Supplier 2: Digi-Key; Supplier Part Number 2: ADP3300ARTZ-5REEL7CT-ND; Supplier 3: Digi-Key; Supplier Part Number 3: ADP3300ARTZ-5REEL7DKR-ND; Supplier 4: Farnell; Supplier Part Number 4: 2312896; Supplier 5: Newark; Supplier Part Number 5: 67W2708; Supplier 6: Newark; Supplier Part Number 6: 61M3983; Supplier 7: Mouser; Supplier Part Number 7: 584-ADP3300ARTZ5R7; Packing: Reel; Mounting Technology: Surface Mount; ComponentLink1Description: Manufacturer URL; ComponentLink1URL: http://www.analog.com/en/index.html; ComponentLink2Description: Datasheet; ComponentLink2URL: http://www.analog.com/static/imported-files/data_sheets/ADP3300.pdf; ComponentLink3Description: Package Specification; ComponentLink3URL: http://www.analog.com/static/imported-files/data_sheets/ADG465.pdf; ComponentLink4Description: URL Link1; ComponentLink4URL: Product URL:http://www.analog.com/en/ADP3300/productSearch.html
footprint ADI-RT-6_N (SOT23, 6-Leads, Body 2.9x1.65mm, Pitch 0.95mm, IPC Medium Density)
footprint ADI-RT-6_L (SOT23, 6-Leads, Body 2.9x1.65mm, Pitch 0.95mm, IPC High Density)
footprint ADI-RT-6_M (SOT23, 6-Leads, Body 2.9x1.65mm, Pitch 0.95mm, IPC Low Density)
pins: 1 GND (power) "Ground Pin", 2 NR "Noise Reduction Pin. Used for further reduction of the output noise (see text for details). No connection if not used.", 3 ~{SD} (in) "Active Low Shutdown Pin. Connect to ground to disable the regulator output. When shutdown is not used, this pin should be connected to the input pin.", 4 OUT (power) "Output of the Regulator, fixed 2.7, 3.0, 3.2, 3.3 or 5 volts output voltage. Bypass to ground with a 0.47 uF or larger capacitor.", 5 IN (power) "Regulator Input", 6 ~{ERR} (oc) "Open Collector Output which goes low to indicate that the output is about to go out of regulation."

## ADP3301AR-5-REEL
designator U?
High Accuracy anyCAP(TM) 100 mA Low Dropout Linear Regulator, 3 to 12 V Vin, 5 V Vout, Industrial, 8-pin SOIC (R-8), Reel; Manufacturer: Analog Devices; PartNumber: ADP3301AR-5-REEL; Iout max: 100mA; Preset Vout Values (V): 5; Supply Current IGND @ Small Load: 180uA; Vin (max) (V): 12; Vin (min) (V): 3; DatasheetVersion: Rev. 0; PackageVersion: 060506-A, 06/2006; PackageReference: R-8; PackageDescription: 8-Pin Standard Small Outline Package, Body 4.9 x 3.9 mm, Pitch 1.27 mm; Supplier 1: Digi-Key; Supplier Part Number 1: ADP3301AR-5-REELTR-ND; Supplier 2: Digi-Key; Supplier Part Number 2: ADP3301AR-5-REELCT-ND; Supplier 3: Digi-Key; Supplier Part Number 3: ADP3301AR-5-REELDKR-ND; Supplier 4: Mouser; Supplier Part Number 4: 584-ADP3301AR-5-R; Packing: Reel; Mounting Technology: Surface Mount; Code_JEDEC: MS-012-AA; ComponentLink1Description: Manufacturer URL; ComponentLink1URL: http://www.analog.com/en/index.html; ComponentLink2Description: Datasheet; ComponentLink2URL: http://www.analog.com/static/imported-files/data_sheets/ADP3301.pdf; ComponentLink3Description: Package Specification; ComponentLink3URL: http://www.analog.com/static/imported-files/packages/PKG_PDF/SOIC_Narrow%20(R)/R_8.pdf; ComponentLink4Description: URL Link1; ComponentLink4URL: Product URL:http://www.analog.com/en/ADP3301/productSearch.html
footprint ADI-R-8_N (SOIC, 8-Leads, Body 4.9x3.9mm, Pitch 1.27mm, IPC Medium Density)
footprint ADI-R-8_L (SOIC, 8-Leads, Body 4.9x3.9mm, Pitch 1.27mm, IPC High Density)
footprint ADI-R-8_M (SOIC, 8-Leads, Body 4.9x3.9mm, Pitch 1.27mm, IPC Low Density)
pins: 1 OUT (power) "Output of the Regulator, fixed 2.7, 3.0, 3.2, 3.3 or 5 volts output voltage. Bypass to ground with a 0.47 uF or larger capacitor.", 2 OUT (power) "Output of the Regulator, fixed 2.7, 3.0, 3.2, 3.3 or 5 volts output voltage. Bypass to ground with a 0.47 uF or larger capacitor.", 3 NR "Noise Reduction Pin. Used for further reduction of the output noise. (See text for details.) No connection if not used.", 4 GND (power) "Ground Pin.", 5 ~{SD} (in) "Active Low Shutdown Pin. Connect to ground to disable the regulator output. When shutdown is not used, this pin should be connected to the input pin.", 6 ERR (oc) "Open Collector Output which goes low to indicate that the output is about to go out of regulation.", 7 IN (power) "Regulator Input.", 8 IN (power) "Regulator Input."

## ADP3301ARZ-2.7
designator U?
High Accuracy anyCAP(TM) 100 mA Low Dropout Linear Regulator, 3 to 12 V Vin, 2.7 V Vout, Industrial, 8-pin SOIC (R-8), Tube; Manufacturer: Analog Devices; PartNumber: ADP3301ARZ-2.7; Iout max: 100mA; Preset Vout Values (V): 2.7; Supply Current IGND @ Small Load: 180uA; Vin (max) (V): 12; Vin (min) (V): 3; DatasheetVersion: Rev. 0; PackageVersion: 060506-A, 06/2006; PackageReference: R-8; PackageDescription: 8-Pin Standard Small Outline Package, Body 4.9 x 3.9 mm, Pitch 1.27 mm; Supplier 1: Digi-Key; Supplier Part Number 1: ADP3301ARZ-2.7-ND; Supplier 2: Mouser; Supplier Part Number 2: 584-ADP3301ARZ-2.7; Packing: Tube; Mounting Technology: Surface Mount; Code_JEDEC: MS-012-AA; ComponentLink1Description: Manufacturer URL; ComponentLink1URL: http://www.analog.com/en/index.html; ComponentLink2Description: Datasheet; ComponentLink2URL: http://www.analog.com/static/imported-files/data_sheets/ADP3301.pdf; ComponentLink3Description: Package Specification; ComponentLink3URL: http://www.analog.com/static/imported-files/packages/PKG_PDF/SOIC_Narrow%20(R)/R_8.pdf; ComponentLink4Description: URL Link1; ComponentLink4URL: Product URL:http://www.analog.com/en/ADP3301/productSearch.html
footprint ADI-R-8_N (SOIC, 8-Leads, Body 4.9x3.9mm, Pitch 1.27mm, IPC Medium Density)
footprint ADI-R-8_L (SOIC, 8-Leads, Body 4.9x3.9mm, Pitch 1.27mm, IPC High Density)
footprint ADI-R-8_M (SOIC, 8-Leads, Body 4.9x3.9mm, Pitch 1.27mm, IPC Low Density)
pins: 1 OUT (power) "Output of the Regulator, fixed 2.7, 3.0, 3.2, 3.3 or 5 volts output voltage. Bypass to ground with a 0.47 uF or larger capacitor.", 2 OUT (power) "Output of the Regulator, fixed 2.7, 3.0, 3.2, 3.3 or 5 volts output voltage. Bypass to ground with a 0.47 uF or larger capacitor.", 3 NR "Noise Reduction Pin. Used for further reduction of the output noise. (See text for details.) No connection if not used.", 4 GND (power) "Ground Pin.", 5 ~{SD} (in) "Active Low Shutdown Pin. Connect to ground to disable the regulator output. When shutdown is not used, this pin should be connected to the input pin.", 6 ERR (oc) "Open Collector Output which goes low to indicate that the output is about to go out of regulation.", 7 IN (power) "Regulator Input.", 8 IN (power) "Regulator Input."

## ADP3301ARZ-3
designator U?
High Accuracy anyCAP(TM) 100 mA Low Dropout Linear Regulator, 3 to 12 V Vin, 3 V Vout, Industrial, 8-pin SOIC (R-8), Tube; Manufacturer: Analog Devices; PartNumber: ADP3301ARZ-3; Iout max: 100mA; Preset Vout Values (V): 3; Supply Current IGND @ Small Load: 180uA; Vin (max) (V): 12; DatasheetVersion: Rev. 0; PackageVersion: 060506-A, 06/2006; PackageReference: R-8; PackageDescription: 8-Pin Standard Small Outline Package, Body 4.9 x 3.9 mm, Pitch 1.27 mm; Supplier 1: Digi-Key; Supplier Part Number 1: ADP3301ARZ-3-ND; Supplier 2: Farnell; Supplier Part Number 2: 2094221; Supplier 3: Newark; Supplier Part Number 3: 12M8143; Supplier 4: Mouser; Supplier Part Number 4: 584-ADP3301ARZ-3; Packing: Tube; Vin (min) (V): 3; Mounting Technology: Surface Mount; Code_JEDEC: MS-012-AA; ComponentLink1Description: Manufacturer URL; ComponentLink1URL: http://www.analog.com/en/index.html; ComponentLink2Description: Datasheet; ComponentLink2URL: http://www.analog.com/static/imported-files/data_sheets/ADP3301.pdf; ComponentLink3Description: Package Specification; ComponentLink3URL: http://www.analog.com/static/imported-files/packages/PKG_PDF/SOIC_Narrow%20(R)/R_8.pdf; ComponentLink4Description: URL Link1; ComponentLink4URL: Product URL:http://www.analog.com/en/ADP3301/productSearch.html
footprint ADI-R-8_N (SOIC, 8-Leads, Body 4.9x3.9mm, Pitch 1.27mm, IPC Medium Density)
footprint ADI-R-8_L (SOIC, 8-Leads, Body 4.9x3.9mm, Pitch 1.27mm, IPC High Density)
footprint ADI-R-8_M (SOIC, 8-Leads, Body 4.9x3.9mm, Pitch 1.27mm, IPC Low Density)
pins: 1 OUT (power) "Output of the Regulator, fixed 2.7, 3.0, 3.2, 3.3 or 5 volts output voltage. Bypass to ground with a 0.47 uF or larger capacitor.", 2 OUT (power) "Output of the Regulator, fixed 2.7, 3.0, 3.2, 3.3 or 5 volts output voltage. Bypass to ground with a 0.47 uF or larger capacitor.", 3 NR "Noise Reduction Pin. Used for further reduction of the output noise. (See text for details.) No connection if not used.", 4 GND (power) "Ground Pin.", 5 ~{SD} (in) "Active Low Shutdown Pin. Connect to ground to disable the regulator output. When shutdown is not used, this pin should be connected to the input pin.", 6 ERR (oc) "Open Collector Output which goes low to indicate that the output is about to go out of regulation.", 7 IN (power) "Regulator Input.", 8 IN (power) "Regulator Input."

## ADP3301ARZ-3-REEL
designator U?
High Accuracy anyCAP(TM) 100 mA Low Dropout Linear Regulator, 3 to 12 V Vin, 3 V Vout, Industrial, 8-pin SOIC (R-8), Reel; Manufacturer: Analog Devices; PartNumber: ADP3301ARZ-3-REEL; Iout max: 100mA; Preset Vout Values (V): 3; Supply Current IGND @ Small Load: 180uA; Vin (max) (V): 12; DatasheetVersion: Rev. 0; PackageVersion: 060506-A, 06/2006; PackageReference: R-8; PackageDescription: 8-Pin Standard Small Outline Package, Body 4.9 x 3.9 mm, Pitch 1.27 mm; Supplier 1: Digi-Key; Supplier Part Number 1: ADP3301ARZ-3-REELTR-ND; Supplier 2: Digi-Key; Supplier Part Number 2: ADP3301ARZ-3-REELCT-ND; Supplier 3: Digi-Key; Supplier Part Number 3: ADP3301ARZ-3-REELDKR-ND; Supplier 4: Mouser; Supplier Part Number 4: 584-ADP3301ARZ-3-R; Packing: Reel; Vin (min) (V): 3; Mounting Technology: Surface Mount; Code_JEDEC: MS-012-AA; ComponentLink1Description: Manufacturer URL; ComponentLink1URL: http://www.analog.com/en/index.html; ComponentLink2Description: Datasheet; ComponentLink2URL: http://www.analog.com/static/imported-files/data_sheets/ADP3301.pdf; ComponentLink3Description: Package Specification; ComponentLink3URL: http://www.analog.com/static/imported-files/packages/PKG_PDF/SOIC_Narrow%20(R)/R_8.pdf; ComponentLink4Description: URL Link1; ComponentLink4URL: Product URL:http://www.analog.com/en/ADP3301/productSearch.html
footprint ADI-R-8_N (SOIC, 8-Leads, Body 4.9x3.9mm, Pitch 1.27mm, IPC Medium Density)
footprint ADI-R-8_L (SOIC, 8-Leads, Body 4.9x3.9mm, Pitch 1.27mm, IPC High Density)
footprint ADI-R-8_M (SOIC, 8-Leads, Body 4.9x3.9mm, Pitch 1.27mm, IPC Low Density)
pins: 1 OUT (power) "Output of the Regulator, fixed 2.7, 3.0, 3.2, 3.3 or 5 volts output voltage. Bypass to ground with a 0.47 uF or larger capacitor.", 2 OUT (power) "Output of the Regulator, fixed 2.7, 3.0, 3.2, 3.3 or 5 volts output voltage. Bypass to ground with a 0.47 uF or larger capacitor.", 3 NR "Noise Reduction Pin. Used for further reduction of the output noise. (See text for details.) No connection if not used.", 4 GND (power) "Ground Pin.", 5 ~{SD} (in) "Active Low Shutdown Pin. Connect to ground to disable the regulator output. When shutdown is not used, this pin should be connected to the input pin.", 6 ERR (oc) "Open Collector Output which goes low to indicate that the output is about to go out of regulation.", 7 IN (power) "Regulator Input.", 8 IN (power) "Regulator Input."

## ADP3301ARZ-3.2
designator U?
High Accuracy anyCAP(TM) 100 mA Low Dropout Linear Regulator, 3 to 12 V Vin, 3.2 V Vout, Industrial, 8-pin SOIC (R-8), Tube; Manufacturer: Analog Devices; PartNumber: ADP3301ARZ-3.2; Iout max: 100mA; Preset Vout Values (V): 3.2; Supply Current IGND @ Small Load: 180uA; Vin (max) (V): 12; Vin (min) (V): 3; DatasheetVersion: Rev. 0; PackageVersion: 060506-A, 06/2006; PackageReference: R-8; PackageDescription: 8-Pin Standard Small Outline Package, Body 4.9 x 3.9 mm, Pitch 1.27 mm; Supplier 1: Digi-Key; Supplier Part Number 1: ADP3301ARZ-3.2-ND; Supplier 2: Farnell; Supplier Part Number 2: 2094219; Supplier 3: Newark; Supplier Part Number 3: 12M8144; Supplier 4: Mouser; Supplier Part Number 4: 584-ADP3301ARZ-3.2; Packing: Tube; Mounting Technology: Surface Mount; Code_JEDEC: MS-012-AA; ComponentLink1Description: Manufacturer URL; ComponentLink1URL: http://www.analog.com/en/index.html; ComponentLink2Description: Datasheet; ComponentLink2URL: http://www.analog.com/static/imported-files/data_sheets/ADP3301.pdf; ComponentLink3Description: Package Specification; ComponentLink3URL: http://www.analog.com/static/imported-files/packages/PKG_PDF/SOIC_Narrow%20(R)/R_8.pdf; ComponentLink4Description: URL Link1; ComponentLink4URL: Product URL:http://www.analog.com/en/ADP3301/productSearch.html
footprint ADI-R-8_N (SOIC, 8-Leads, Body 4.9x3.9mm, Pitch 1.27mm, IPC Medium Density)
footprint ADI-R-8_L (SOIC, 8-Leads, Body 4.9x3.9mm, Pitch 1.27mm, IPC High Density)
footprint ADI-R-8_M (SOIC, 8-Leads, Body 4.9x3.9mm, Pitch 1.27mm, IPC Low Density)
pins: 1 OUT (power) "Output of the Regulator, fixed 2.7, 3.0, 3.2, 3.3 or 5 volts output voltage. Bypass to ground with a 0.47 uF or larger capacitor.", 2 OUT (power) "Output of the Regulator, fixed 2.7, 3.0, 3.2, 3.3 or 5 volts output voltage. Bypass to ground with a 0.47 uF or larger capacitor.", 3 NR "Noise Reduction Pin. Used for further reduction of the output noise. (See text for details.) No connection if not used.", 4 GND (power) "Ground Pin.", 5 ~{SD} (in) "Active Low Shutdown Pin. Connect to ground to disable the regulator output. When shutdown is not used, this pin should be connected to the input pin.", 6 ERR (oc) "Open Collector Output which goes low to indicate that the output is about to go out of regulation.", 7 IN (power) "Regulator Input.", 8 IN (power) "Regulator Input."

## ADP3301ARZ-3.3
designator U?
High Accuracy anyCAP(TM) 100 mA Low Dropout Linear Regulator, 3 to 12 V Vin, 3.3 V Vout, Industrial, 8-pin SOIC (R-8), Tube; Manufacturer: Analog Devices; PartNumber: ADP3301ARZ-3.3; Iout max: 100mA; Preset Vout Values (V): 3.3; Supply Current IGND @ Small Load: 180uA; Vin (max) (V): 12; Vin (min) (V): 3; DatasheetVersion: Rev. 0; PackageVersion: 060506-A, 06/2006; PackageReference: R-8; PackageDescription: 8-Pin Standard Small Outline Package, Body 4.9 x 3.9 mm, Pitch 1.27 mm; Supplier 1: Digi-Key; Supplier Part Number 1: ADP3301ARZ-3.3-ND; Supplier 2: Farnell; Supplier Part Number 2: 2094220; Supplier 3: Newark; Supplier Part Number 3: 12M8145; Supplier 4: Mouser; Supplier Part Number 4: 584-ADP3301ARZ-3.3; Packing: Tube; Mounting Technology: Surface Mount; Code_JEDEC: MS-012-AA; ComponentLink1Description: Manufacturer URL; ComponentLink1URL: http://www.analog.com/en/index.html; ComponentLink2Description: Datasheet; ComponentLink2URL: http://www.analog.com/static/imported-files/data_sheets/ADP3301.pdf; ComponentLink3Description: Package Specification; ComponentLink3URL: http://www.analog.com/static/imported-files/packages/PKG_PDF/SOIC_Narrow%20(R)/R_8.pdf; ComponentLink4Description: URL Link1; ComponentLink4URL: Product URL:http://www.analog.com/en/ADP3301/productSearch.html
footprint ADI-R-8_N (SOIC, 8-Leads, Body 4.9x3.9mm, Pitch 1.27mm, IPC Medium Density)
footprint ADI-R-8_L (SOIC, 8-Leads, Body 4.9x3.9mm, Pitch 1.27mm, IPC High Density)
footprint ADI-R-8_M (SOIC, 8-Leads, Body 4.9x3.9mm, Pitch 1.27mm, IPC Low Density)
pins: 1 OUT (power) "Output of the Regulator, fixed 2.7, 3.0, 3.2, 3.3 or 5 volts output voltage. Bypass to ground with a 0.47 uF or larger capacitor.", 2 OUT (power) "Output of the Regulator, fixed 2.7, 3.0, 3.2, 3.3 or 5 volts output voltage. Bypass to ground with a 0.47 uF or larger capacitor.", 3 NR "Noise Reduction Pin. Used for further reduction of the output noise. (See text for details.) No connection if not used.", 4 GND (power) "Ground Pin.", 5 ~{SD} (in) "Active Low Shutdown Pin. Connect to ground to disable the regulator output. When shutdown is not used, this pin should be connected to the input pin.", 6 ERR (oc) "Open Collector Output which goes low to indicate that the output is about to go out of regulation.", 7 IN (power) "Regulator Input.", 8 IN (power) "Regulator Input."

## ADP3301ARZ-3.3-RL
designator U?
High Accuracy anyCAP(TM) 100 mA Low Dropout Linear Regulator, 3 to 12 V Vin, 3.3 V Vout, Industrial, 8-pin SOIC (R-8), Reel; Manufacturer: Analog Devices; PartNumber: ADP3301ARZ-3.3-RL; Iout max: 100mA; Preset Vout Values (V): 3.3; Supply Current IGND @ Small Load: 180uA; Vin (max) (V): 12; Vin (min) (V): 3; DatasheetVersion: Rev. 0; PackageVersion: 060506-A, 06/2006; PackageReference: R-8; PackageDescription: 8-Pin Standard Small Outline Package, Body 4.9 x 3.9 mm, Pitch 1.27 mm; Supplier 1: Digi-Key; Supplier Part Number 1: ADP3301ARZ-3.3-RLTR-ND; Supplier 2: Digi-Key; Supplier Part Number 2: ADP3301ARZ-3.3-RLCT-ND; Supplier 3: Digi-Key; Supplier Part Number 3: ADP3301ARZ-3.3-RLDKR-ND; Supplier 4: Mouser; Supplier Part Number 4: 584-ADP3301ARZ-3.3-R; Packing: Reel; Mounting Technology: Surface Mount; Code_JEDEC: MS-012-AA; ComponentLink1Description: Manufacturer URL; ComponentLink1URL: http://www.analog.com/en/index.html; ComponentLink2Description: Datasheet; ComponentLink2URL: http://www.analog.com/static/imported-files/data_sheets/ADP3301.pdf; ComponentLink3Description: Package Specification; ComponentLink3URL: http://www.analog.com/static/imported-files/packages/PKG_PDF/SOIC_Narrow%20(R)/R_8.pdf; ComponentLink4Description: URL Link1; ComponentLink4URL: Product URL:http://www.analog.com/en/ADP3301/productSearch.html
footprint ADI-R-8_N (SOIC, 8-Leads, Body 4.9x3.9mm, Pitch 1.27mm, IPC Medium Density)
footprint ADI-R-8_L (SOIC, 8-Leads, Body 4.9x3.9mm, Pitch 1.27mm, IPC High Density)
footprint ADI-R-8_M (SOIC, 8-Leads, Body 4.9x3.9mm, Pitch 1.27mm, IPC Low Density)
pins: 1 OUT (power) "Output of the Regulator, fixed 2.7, 3.0, 3.2, 3.3 or 5 volts output voltage. Bypass to ground with a 0.47 uF or larger capacitor.", 2 OUT (power) "Output of the Regulator, fixed 2.7, 3.0, 3.2, 3.3 or 5 volts output voltage. Bypass to ground with a 0.47 uF or larger capacitor.", 3 NR "Noise Reduction Pin. Used for further reduction of the output noise. (See text for details.) No connection if not used.", 4 GND (power) "Ground Pin.", 5 ~{SD} (in) "Active Low Shutdown Pin. Connect to ground to disable the regulator output. When shutdown is not used, this pin should be connected to the input pin.", 6 ERR (oc) "Open Collector Output which goes low to indicate that the output is about to go out of regulation.", 7 IN (power) "Regulator Input.", 8 IN (power) "Regulator Input."

## ADP3301ARZ-5
designator U?
High Accuracy anyCAP(TM) 100 mA Low Dropout Linear Regulator, 3 to 12 V Vin, 5 V Vout, Industrial, 8-pin SOIC (R-8), Tube; Manufacturer: Analog Devices; PartNumber: ADP3301ARZ-5; Iout max: 100mA; Preset Vout Values (V): 5; Supply Current IGND @ Small Load: 180uA; Vin (max) (V): 12; Vin (min) (V): 3; DatasheetVersion: Rev. 0; PackageVersion: 060506-A, 06/2006; PackageReference: R-8; PackageDescription: 8-Pin Standard Small Outline Package, Body 4.9 x 3.9 mm, Pitch 1.27 mm; Supplier 1: Digi-Key; Supplier Part Number 1: ADP3301ARZ-5-ND; Supplier 2: Farnell; Supplier Part Number 2: 2094222; Supplier 3: Newark; Supplier Part Number 3: 59K2578; Supplier 4: Mouser; Supplier Part Number 4: 584-ADP3301ARZ-5; Packing: Tube; Mounting Technology: Surface Mount; Code_JEDEC: MS-012-AA; ComponentLink1Description: Manufacturer URL; ComponentLink1URL: http://www.analog.com/en/index.html; ComponentLink2Description: Datasheet; ComponentLink2URL: http://www.analog.com/static/imported-files/data_sheets/ADP3301.pdf; ComponentLink3Description: Package Specification; ComponentLink3URL: http://www.analog.com/static/imported-files/packages/PKG_PDF/SOIC_Narrow%20(R)/R_8.pdf; ComponentLink4Description: URL Link1; ComponentLink4URL: Product URL:http://www.analog.com/en/ADP3301/productSearch.html
footprint ADI-R-8_N (SOIC, 8-Leads, Body 4.9x3.9mm, Pitch 1.27mm, IPC Medium Density)
footprint ADI-R-8_L (SOIC, 8-Leads, Body 4.9x3.9mm, Pitch 1.27mm, IPC High Density)
footprint ADI-R-8_M (SOIC, 8-Leads, Body 4.9x3.9mm, Pitch 1.27mm, IPC Low Density)
pins: 1 OUT (power) "Output of the Regulator, fixed 2.7, 3.0, 3.2, 3.3 or 5 volts output voltage. Bypass to ground with a 0.47 uF or larger capacitor.", 2 OUT (power) "Output of the Regulator, fixed 2.7, 3.0, 3.2, 3.3 or 5 volts output voltage. Bypass to ground with a 0.47 uF or larger capacitor.", 3 NR "Noise Reduction Pin. Used for further reduction of the output noise. (See text for details.) No connection if not used.", 4 GND (power) "Ground Pin.", 5 ~{SD} (in) "Active Low Shutdown Pin. Connect to ground to disable the regulator output. When shutdown is not used, this pin should be connected to the input pin.", 6 ERR (oc) "Open Collector Output which goes low to indicate that the output is about to go out of regulation.", 7 IN (power) "Regulator Input.", 8 IN (power) "Regulator Input."